# EAGLE library part M06 (library NBitWonder)
6 pin header
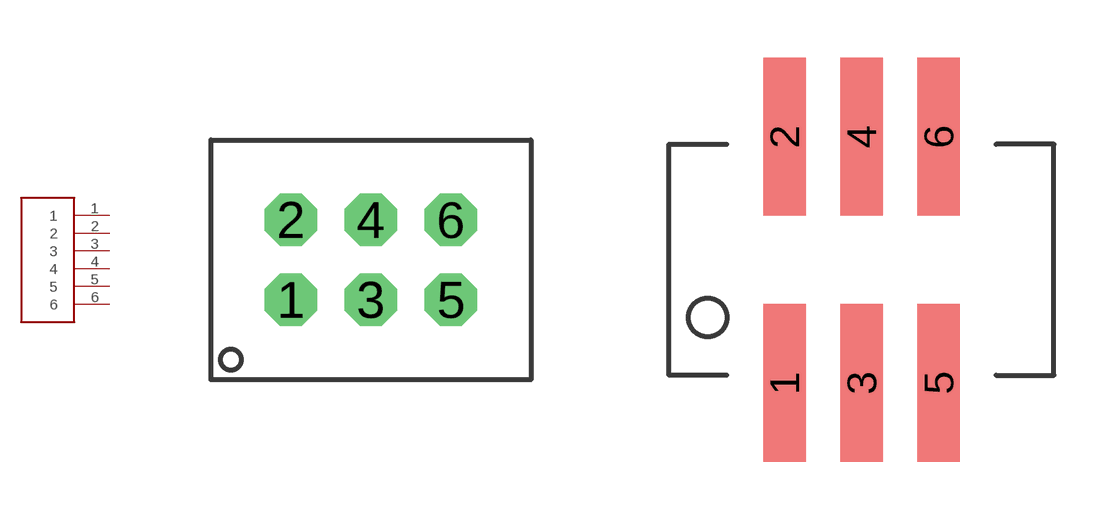
[diagram p28: symbol with the pads of IDC_2X03_2MM_PTH; footprints IDC_2X03_2MM_PTH, IDC_2X03_2MM_SMD]

Designator prefix -

## M06IDC_PTH  [IDC_2X03_2MM_PTH]
1  1
2  2
3  3
4  4
5  5
6  6

## M06IDC_SMD  [IDC_2X03_2MM_SMD]
Pads as for IDC_2X03_2MM_PTH

## Footprint IDC_2X03_2MM_PTH (pad centres in mm)
2x3 IDC Connector Reference part: http://search.digikey.com/scripts/DkSearch/dksus.dll?Detail&name=609-3628-ND
drill 0.8 octagon: 1 -2,-1; 2 -2,1; 3 0,-1; 4 0,1; 5 2,-1; 6 2,1

## Footprint IDC_2X03_2MM_SMD (pad centres in mm)
2x3 2MM IDC footprint Reference Part: http://search.digikey.com/scripts/DkSearch/dksus.dll?Detail&name=609-3629-ND
smd 1.1 x 4.1: 1 -2,-3.2; 2 -2,3.2; 3 0,-3.2; 4 0,3.2; 5 2,-3.2; 6 2,3.2